# Altium schematic symbol library BoostConverter.SchLib: 16 symbols
Pins are listed as number, name and electrical type; pins without a type are passive.

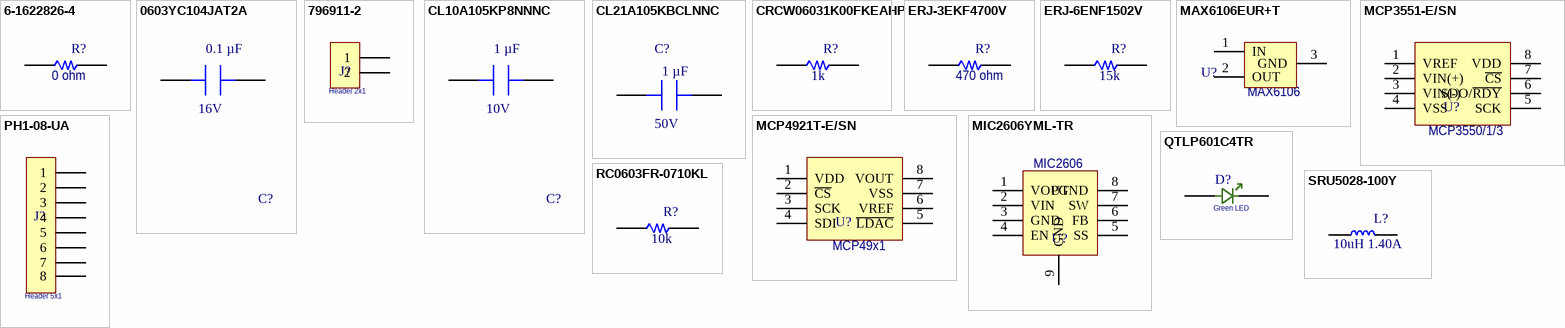
[diagram p0: symbols 6-1622826-4 to SRU5028-100Y]

## 6-1622826-4
designator R?, comment value 0 ohm  (hidden comment: ANRESE240000000000)
0R, 0402, Thick Film, 1/16W, %1; Manufecturer: TE Connectivity Passive Product; Manufecturer Part Number: CRG0402ZR; Detailed Description: 0 Ohms Jumper 0.063W, 1/16W Chip Resistor 0402 (1005 Metric) Thick Film; Digi-Key Part Number: A106025TR-ND; Operating Temperature: -55°C ~ 155°C
footprint 0402-N
pins: 1, 2

## 0603YC104JAT2A
designator C?, comment value 0.1 µF  Voltage - Rated: 16V  (hidden comment: ANCAP0UF1006030412)
0.10µF ±5% 16V Ceramic Capacitor X7R 0603 (1608 Metric); Manufacturer: KYOCERA AVX; Order Number: 0603YC104JAT2A; Operating Temperature: -55°C ~ 125°C; Digi-Key Part Number: 478-3726-2-ND; Parameter 8: *; Parameter 9: *
footprint C0603-N
pins: 1, 2

## 796911-2
designator J?, comment Name: Header 2x1  (hidden comment: ANCON02202P1757242)
TERM BLK 2P SIDE ENT 5.08MM PCB; Manufacturer: Phoenix Contact; Value: 2POS 90DEG 5.08MM; Voltage: 300 V; Current: 17.5 A; Digi-Key Part Number: A121381-ND
footprint 796911-2
pins: 1, 2

## CL10A105KP8NNNC
designator C?, comment value 1 µF  Voltage - Rated: 10V  (hidden comment: ANCAP110040340E0000)
CAP CER 1UF 10V X5R 0603; Manufacturer: Samsung Electro-Mechanics; Order Number: CL10A105KP8NNNC; Operating Temperature: -55°C ~ 85°C; Digi-Key Part Number: 1276-1182-2-ND; Parameter 8: *; Parameter 9: *
footprint C0603-N
pins: 1, 2

## CL21A105KBCLNNC
designator C?, comment value 1 µF  Voltage - Rated: 50V  (hidden comment: ANCAP1UF0008050713)
CAP CER 1UF 50V X5R 0805; Manufacturer: Samsung Electro-Mechanics; Order Number: CL21A105KBCLNNC; Operating Temperature: -55°C ~ 85°C; Digi-Key Part Number: 1276-2396-2-ND; Parameter 8: *; Parameter 9: *
footprint C0805-N
pins: 1, 2

## CRCW06031K00FKEAHP
designator R?, comment value 1k  (hidden comment: ANRES1K0006033BC00)
RES SMD 1K OHM 1% 1/3W 0603; Manufecturer: Vishay Dale; Detailed Description: 1 kOhms ±1% 0.333W, 1/3W Chip Resistor 0603 (1608 Metric) Automotive AEC-Q200, Pulse Withstanding Thick Film; Digi-Key Part Number: 541-1.00KSTR-ND; Operating Temperature: -55°C ~ 155°C
footprint 0603-N
pins: 1, 2

## ERJ-3EKF4700V
designator R?, comment value 470 ohm  (hidden comment: ANRESE240147010000)
E24, 470R, 0603, %1; Manufecturer: Panasonic Electronic Components; Manufecturer Product Number: ERJ-3EKF4700V; Detailed Description: 470 Ohms ±1% 0.1W, 1/10W Chip Resistor 0603 (1608 Metric) Automotive AEC-Q200 Thick Film; Digi-Key Part Number: P470HTR-ND; Operating Temperature: -55°C ~ 155°C
footprint 0603-N
pins: 1, 2

## ERJ-6ENF1502V
designator R?, comment value 15k  (hidden comment: ANRESE240215030000)
E24, 15K, 0805, %1; Manufecturer: Panasonic - ECG; Detailed Description: 15 kOhms ±1% 0.125W, 1/8W Chip Resistor 0805 (2012 Metric) Automotive AEC-Q200 Thick Film; Digi-Key Part Number: P15.0KCTR-ND; Operating Temperature: -55°C ~ 155°C
footprint 0805-N
pins: 1, 2

## MAX6106EUR+T
designator U?, comment Name: MAX6106  (hidden comment: ANICMAX6106EURTTRN)
IC VREF SERIES 0.4% SOT23-3; Manufacturer: Analog Devices Inc./Maxim Integrated; Current - Output: 5mA; Voltage - Output (Min/Fixed): 2.048V; Operating Temperature: -40°C ~ 85°C (TA)
footprint MAX6106EUR+T
pins: 1 IN, 2 OUT, 3 GND

## MCP3551-E/SN
designator U?, comment Name: MCP3550/1/3  (hidden comment: ANICMCP3551ESNND00)
IC ADC 22BIT SIGMA-DELTA 8SOIC; Manufacturer: Microchip Technology; Voltage - Supply, Analog/Digital: 2.7V ~ 5.5V; Input Type: Differential; Operating Temperature: -40°C ~ 125°C
footprint MCP3551-E/SN
pins: 1 VREF, 2 VIN(+), 3 VIN(-), 4 VSS, 5 SCK, 6 SDO/~{RDY}, 7 ~{CS}, 8 VDD

## MCP4921T-E/SN
designator U?, comment Name: MCP49x1  (hidden comment: ANICMCP4921EMCND00)
IC DAC 12BIT V-OUT 8DFN; Manufacturer: Microchip Technology; Voltage - Supply, Analog/Digital: 2.7V ~ 5.5V; Input Type: Differential; Number of Bits: 12; Operating Temperature: -40°C ~ 125°C; Digi-Key Part Number: MCP4921T-E/SNTR-ND
footprint MCP4921T-E/SN
pins: 1 VDD, 2 ~{CS}, 3 SCK, 4 SDI, 5 ~{LDAC}, 6 VREF, 7 VSS, 8 VOUT

## MIC2606YML-TR
designator U?, comment Name: MIC2606  (hidden comment: ANICMIC2606YMLTR00)
IC REG BOOST ADJ 500MA 8MLF; Manufacturer: Microchip Technology; Current - Output: 500mA (Switch); Voltage - Output (Min/Fixed): 4.5V; Operating Temperature: -40°C ~ 125°C (TJ)
footprint MIC2606YML-TR
pins: 1 VOUT, 2 VIN, 3 GND, 4 EN, 5 SS, 6 FB, 7 SW, 8 PGND, 9 GND

## PH1-08-UA
designator J?, comment value Header 5x1  (hidden comment: ANCON2000824000000)
8 POS HEADER; Manufacturer: Adam Tech; Voltage Rating: 250V; Current Rating: 3 A; Digi-Key Part Number: 2057-PH1-08-UA-ND
footprint 8POS
pins: 1, 2, 3, 4, 5, 6, 7, 8

## QTLP601C4TR
designator D?, comment value Green LED  (hidden comment: ANLEDQTLP601C4TR00)
Green 570nm LED Indication - Discrete 2.1V 0603 (1608 Metric); Manufacturer: Everlight Electronics Co Ltd; Current - Test: 20 mA; Voltage - Forward (Vf) (Typ): 2.1 V; Digi-Key Part Number: 1080-1405-2-ND
footprint QTLP601C4TR-0603
pins: 1, 2

## RC0603FR-0710KL
designator R?, comment value 10k  (hidden comment: ANRES10K006031T700)
10K 1/10W 5% 0603; Manufecturer: YAGEO; Detailed Description: 10 kOhms ±1% 0.1W, 1/10W Chip Resistor 0603 (1608 Metric) Moisture Resistant Thick Film; Digi-Key Part Number: 311-10.0KHRTR-ND; Operating Temperature: -55°C ~ 155°C
footprint 0603-N
pins: 1, 2

## SRU5028-100Y
designator L?, comment value 10uH 1.40A  (hidden comment: ANIND10UH001A40009)
10uH, 1.40A, -40C +125C, SRU5028-100Y; Manufacturer: Bourns Inc.; Current Rating: 1.8 A; Digi-Key Part Number: SRU5028-100YTR-ND; Operating Temperature: -40°C ~ 125°C
footprint SRU5028 (İnductor)
pins: 1, 2